# Altium footprint library Capacitor_THT.PcbLib: 378 footprints (part 22 of 24)
Each footprint in its own frame and in the unit in brackets; x right, y up, seen from the top. Pads: shape width x height; smd on the part's side, far side on the other; paste and mask are expansions set on the pad; w line width, h text height; cw(c..) or ccw(c..) is an arc to the next point about the centre after c.
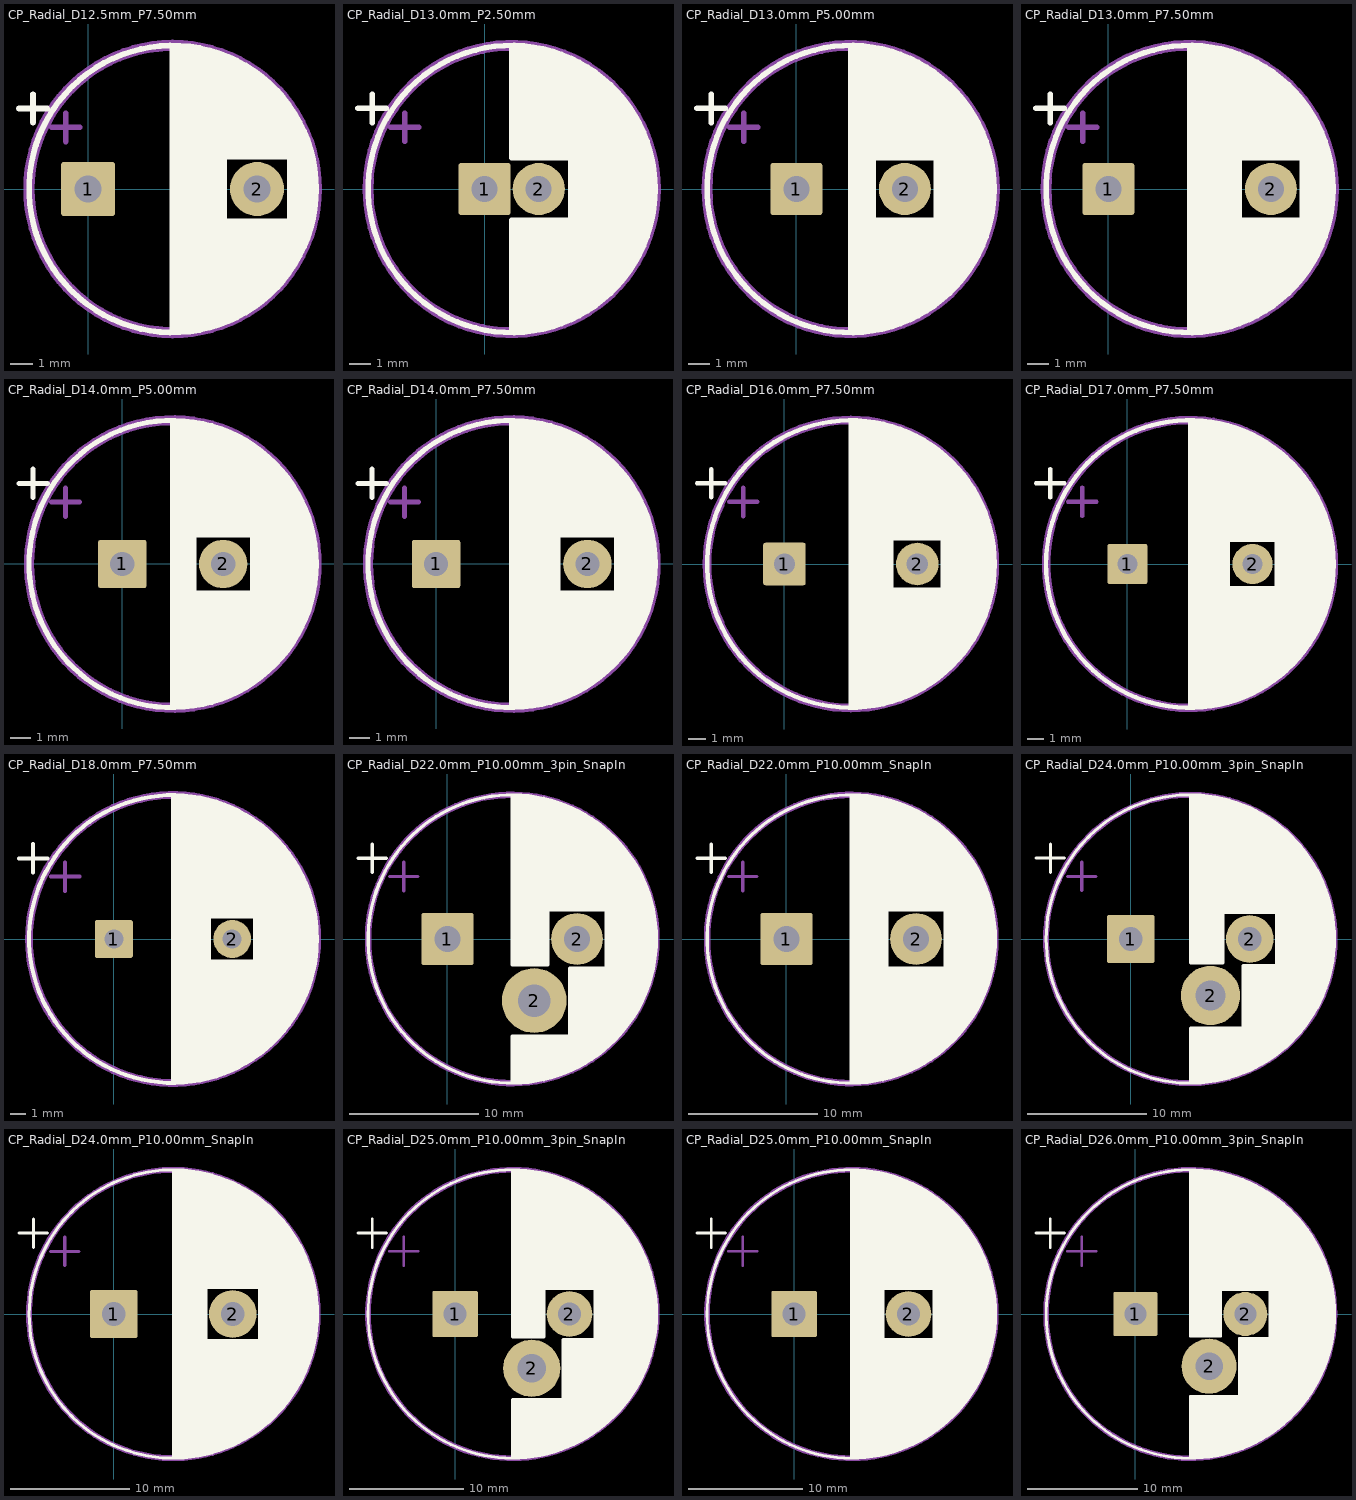
[diagram p21: the footprints below, top view; thin cyan lines are the x and y axes]

## CP_Radial_D12.5mm_P7.50mm [mm] "CP_Radial_D12.5mm_P7.50mm"
pads (2):
  rrect10% 2.4x2.4 hole 1.2: 1(0,0)
  round 2.4 hole 1.2: 2(7.5,0)
F.SilkS:
  drawing of 235 lines, arcs and shapes, not listed
Top Component Center:
  lines w0.127: -0.127,0 0.127,0 ; 0,-0.127 0,0.127
Top Assembly:
  circle w0.254: c3.75,0 r6.25
  lines w0.254: -1.616,2.738 -0.366,2.738 ; -0.991,2.113 -0.991,3.363
Top Courtyard:
  circle w0.254: c3.75,0 r6.5
Top Designator:
  text ".Designator" at 2.314,2.252 h1
3D body "CP_Radial_D12.5mm_P7.50mm.step": height 12.5, standoff -2, extent -2.5,-6.248 10,6.249

## CP_Radial_D13.0mm_P2.50mm [mm] "CP_Radial_D13.0mm_P2.50mm"
pads (2):
  rrect10% 2.4x2.4 hole 1.2: 1(0,0)
  round 2.4 hole 1.2: 2(2.5,0)
F.SilkS:
  drawing of 237 lines, arcs and shapes, not listed
Top Component Center:
  lines w0.127: -0.127,0 0.127,0 ; 0,-0.127 0,0.127
Top Assembly:
  circle w0.254: c1.25,0 r6.5
  lines w0.254: -4.332,2.848 -3.032,2.848 ; -3.682,2.197 -3.682,3.498
Top Courtyard:
  circle w0.254: c1.25,0 r6.75
Top Designator:
  text ".Designator" at -2.885,2.799 h1.52
3D body "CP_Radial_D13.0mm_P2.50mm.step": height 13, standoff -2, extent -5.244,-6.5 7.75,6.498

## CP_Radial_D13.0mm_P5.00mm [mm] "CP_Radial_D13.0mm_P5.00mm"
pads (2):
  rrect10% 2.4x2.4 hole 1.2: 1(0,0)
  round 2.4 hole 1.2: 2(5,0)
F.SilkS:
  drawing of 241 lines, arcs and shapes, not listed
Top Component Center:
  lines w0.127: -0.127,0 0.127,0 ; 0,-0.127 0,0.127
Top Assembly:
  circle w0.254: c2.5,0 r6.5
  lines w0.254: -3.082,2.848 -1.782,2.848 ; -2.432,2.197 -2.432,3.498
Top Courtyard:
  circle w0.254: c2.5,0 r6.75
Top Designator:
  text ".Designator" at 1.433,3.18 h1.52
3D body "CP_Radial_D13.0mm_P5.00mm.step": height 13, standoff -2, extent -3.994,-6.5 9,6.498

## CP_Radial_D13.0mm_P7.50mm [mm] "CP_Radial_D13.0mm_P7.50mm"
pads (2):
  rrect10% 2.4x2.4 hole 1.2: 1(0,0)
  round 2.4 hole 1.2: 2(7.5,0)
F.SilkS:
  drawing of 241 lines, arcs and shapes, not listed
Top Component Center:
  lines w0.127: -0.127,0 0.127,0 ; 0,-0.127 0,0.127
Top Assembly:
  circle w0.254: c3.75,0 r6.5
  lines w0.254: -1.832,2.848 -0.532,2.848 ; -1.182,2.197 -1.182,3.498
Top Courtyard:
  circle w0.254: c3.75,0 r6.75
Top Designator:
  text ".Designator" at 2.246,2.8 h1.3
3D body "CP_Radial_D13.0mm_P7.50mm.step": height 13, standoff -2, extent -2.744,-6.5 10.25,6.498

## CP_Radial_D14.0mm_P5.00mm [mm] "CP_Radial_D14.0mm_P5.00mm"
pads (2):
  rrect10% 2.4x2.4 hole 1.2: 1(0,0)
  round 2.4 hole 1.2: 2(5,0)
F.SilkS:
  drawing of 253 lines, arcs and shapes, not listed
Top Component Center:
  lines w0.127: -0.127,0 0.127,0 ; 0,-0.127 0,0.127
Top Assembly:
  circle w0.254: c2.5,0 r7
  lines w0.254: -3.513,3.067 -2.113,3.067 ; -2.813,2.368 -2.813,3.768
Top Courtyard:
  circle w0.254: c2.5,0 r7.25
Top Designator:
  text ".Designator" at 1.433,3.434 h1.52
3D body "CP_Radial_D14.0mm_P5.00mm.step": height 14, standoff -2, extent -4.5,-6.999 9.5,6.999

## CP_Radial_D14.0mm_P7.50mm [mm] "CP_Radial_D14.0mm_P7.50mm"
pads (2):
  rrect10% 2.4x2.4 hole 1.2: 1(0,0)
  round 2.4 hole 1.2: 2(7.5,0)
F.SilkS:
  drawing of 253 lines, arcs and shapes, not listed
Top Component Center:
  lines w0.127: -0.127,0 0.127,0 ; 0,-0.127 0,0.127
Top Assembly:
  circle w0.254: c3.75,0 r7
  lines w0.254: -2.263,3.067 -0.863,3.067 ; -1.563,2.368 -1.563,3.768
Top Courtyard:
  circle w0.254: c3.75,0 r7.25
Top Designator:
  text ".Designator" at 2.195,3.307 h1.52
3D body "CP_Radial_D14.0mm_P7.50mm.step": height 14, standoff -2, extent -3.25,-6.999 10.75,6.999

## CP_Radial_D16.0mm_P7.50mm [mm] "CP_Radial_D16.0mm_P7.50mm"
pads (2):
  rrect10% 2.4x2.4 hole 1.2: 1(0,0)
  round 2.4 hole 1.2: 2(7.5,0)
F.SilkS:
  drawing of 278 lines, arcs and shapes, not listed
Top Component Center:
  lines w0.127: -0.127,0 0.127,0 ; 0,-0.127 0,0.127
Top Assembly:
  circle w0.254: c3.75,0 r8
  lines w0.254: -3.125,3.508 -1.525,3.508 ; -2.325,2.708 -2.325,4.307
Top Courtyard:
  circle w0.254: c3.75,0 r8.25
Top Designator:
  text ".Designator" at 2.195,3.307 h1.52
3D body "CP_Radial_D16.0mm_P7.50mm.step": height 16, standoff -2, extent -4.25,-7.999 11.75,7.997

## CP_Radial_D17.0mm_P7.50mm [mm] "CP_Radial_D17.0mm_P7.50mm"
pads (2):
  rrect10% 2.4x2.4 hole 1.2: 1(0,0)
  round 2.4 hole 1.2: 2(7.5,0)
F.SilkS:
  drawing of 291 lines, arcs and shapes, not listed
Top Component Center:
  lines w0.127: -0.127,0 0.127,0 ; 0,-0.127 0,0.127
Top Assembly:
  circle w0.254: c3.75,0 r8.5
  lines w0.254: -3.556,3.728 -1.856,3.728 ; -2.706,2.877 -2.706,4.577
Top Courtyard:
  circle w0.254: c3.75,0 r8.75
Top Designator:
  text ".Designator" at 2.195,3.434 h1.52
3D body "CP_Radial_D17.0mm_P7.50mm.step": height 17, standoff -2, extent -4.75,-8.5 12.25,8.5

## CP_Radial_D18.0mm_P7.50mm [mm] "CP_Radial_D18.0mm_P7.50mm"
pads (2):
  rrect10% 2.4x2.4 hole 1.2: 1(0,0)
  round 2.4 hole 1.2: 2(7.5,0)
F.SilkS:
  drawing of 304 lines, arcs and shapes, not listed
Top Component Center:
  lines w0.127: -0.127,0 0.127,0 ; 0,-0.127 0,0.127
Top Assembly:
  circle w0.254: c3.75,0 r9
  lines w0.254: -3.987,3.948 -2.187,3.948 ; -3.087,3.047 -3.087,4.848
Top Courtyard:
  circle w0.254: c3.75,0 r9.25
Top Designator:
  text ".Designator" at 2.195,3.307 h1.52
3D body "CP_Radial_D18.0mm_P7.50mm.step": height 18, standoff -2, extent -5.247,-8.999 12.75,8.997

## CP_Radial_D22.0mm_P10.00mm_3pin_SnapIn [mm] "CP_Radial_D22.0mm_P10.00mm_3pin_SnapIn"
pads (3):
  rrect6% 4x4 hole 2: 1(0,0)
  round 5 hole 2.5: 2(6.7,-4.75)
  round 4 hole 2: 2(10,0)
F.SilkS:
  drawing of 463 lines, arcs and shapes, not listed
Top Component Center:
  lines w0.127: -0.127,0 0.127,0 ; 0,-0.127 0,0.127
Top Assembly:
  circle w0.254: c5,0 r11
  lines w0.254: -4.461,4.828 -2.261,4.828 ; -3.361,3.728 -3.361,5.927
Top Courtyard:
  circle w0.254: c5,0 r11.25
Top Designator:
  text ".Designator" at 2.957,3.307 h1.52
3D body "CP_Radial_D22.0mm_P10.00mm_3pin_SnapIn.step": height 22, standoff -2, extent -11,-10.997 10.999,10.997

## CP_Radial_D22.0mm_P10.00mm_SnapIn [mm] "CP_Radial_D22.0mm_P10.00mm_SnapIn"
pads (2):
  rrect6% 4x4 hole 2: 1(0,0)
  round 4 hole 2: 2(10,0)
F.SilkS:
  drawing of 393 lines, arcs and shapes, not listed
Top Component Center:
  lines w0.127: -0.127,0 0.127,0 ; 0,-0.127 0,0.127
Top Assembly:
  circle w0.254: c5,0 r11
  lines w0.254: -4.461,4.828 -2.261,4.828 ; -3.361,3.728 -3.361,5.927
Top Courtyard:
  circle w0.254: c5,0 r11.25
Top Designator:
  text ".Designator" at 3.338,3.307 h1.52
3D body "CP_Radial_D22.0mm_P10.00mm_SnapIn.step": height 22, standoff -2, extent -5.999,-10.997 16,10.997

## CP_Radial_D24.0mm_P10.00mm_3pin_SnapIn [mm] "CP_Radial_D24.0mm_P10.00mm_3pin_SnapIn"
pads (3):
  rrect6% 4x4 hole 2: 1(0,0)
  round 5 hole 2.5: 2(6.7,-4.75)
  round 4 hole 2: 2(10,0)
F.SilkS:
  drawing of 488 lines, arcs and shapes, not listed
Top Component Center:
  lines w0.127: -0.127,0 0.127,0 ; 0,-0.127 0,0.127
Top Assembly:
  circle w0.254: c5,0 r12
  lines w0.254: -5.324,5.268 -2.924,5.268 ; -4.124,4.068 -4.124,6.468
Top Courtyard:
  circle w0.254: c5,0 r12.25
Top Designator:
  text ".Designator" at 3.084,3.307 h1.52
3D body "CP_Radial_D24.0mm_P10.00mm_3pin_SnapIn.step": height 24, standoff -2, extent -12,-11.997 11.999,11.997

## CP_Radial_D24.0mm_P10.00mm_SnapIn [mm] "CP_Radial_D24.0mm_P10.00mm_SnapIn"
pads (2):
  rrect6% 4x4 hole 2: 1(0,0)
  round 4 hole 2: 2(10,0)
F.SilkS:
  drawing of 418 lines, arcs and shapes, not listed
Top Component Center:
  lines w0.127: -0.127,0 0.127,0 ; 0,-0.127 0,0.127
Top Assembly:
  circle w0.254: c5,0 r12
  lines w0.254: -5.324,5.268 -2.924,5.268 ; -4.124,4.068 -4.124,6.468
Top Courtyard:
  circle w0.254: c5,0 r12.25
Top Designator:
  text ".Designator" at 3.084,3.434 h1.52
3D body "CP_Radial_D24.0mm_P10.00mm_SnapIn.step": height 24, standoff -2, extent -6.999,-11.997 17,11.997

## CP_Radial_D25.0mm_P10.00mm_3pin_SnapIn [mm] "CP_Radial_D25.0mm_P10.00mm_3pin_SnapIn"
pads (3):
  rrect6% 4x4 hole 2: 1(0,0)
  round 5 hole 2.5: 2(6.7,-4.75)
  round 4 hole 2: 2(10,0)
F.SilkS:
  drawing of 500 lines, arcs and shapes, not listed
Top Component Center:
  lines w0.127: -0.127,0 0.127,0 ; 0,-0.127 0,0.127
Top Assembly:
  circle w0.254: c5,0 r12.5
  lines w0.254: -5.755,5.487 -3.255,5.487 ; -4.505,4.237 -4.505,6.737
Top Courtyard:
  circle w0.254: c5,0 r12.75
Top Designator:
  text ".Designator" at 3.084,3.18 h1.52
3D body "CP_Radial_D25.0mm_P10.00mm_3pin_SnapIn.step": height 25, standoff -2, extent -12.5,-12.497 12.499,12.497

## CP_Radial_D25.0mm_P10.00mm_SnapIn [mm] "CP_Radial_D25.0mm_P10.00mm_SnapIn"
pads (2):
  rrect6% 4x4 hole 2: 1(0,0)
  round 4 hole 2: 2(10,0)
F.SilkS:
  drawing of 430 lines, arcs and shapes, not listed
Top Component Center:
  lines w0.127: -0.127,0 0.127,0 ; 0,-0.127 0,0.127
Top Assembly:
  circle w0.254: c5,0 r12.5
  lines w0.254: -5.755,5.487 -3.255,5.487 ; -4.505,4.237 -4.505,6.737
Top Courtyard:
  circle w0.254: c5,0 r12.75
Top Designator:
  text ".Designator" at 3.211,3.18 h1.52
3D body "CP_Radial_D25.0mm_P10.00mm_SnapIn.step": height 25, standoff -2, extent -7.499,-12.497 17.5,12.497

## CP_Radial_D26.0mm_P10.00mm_3pin_SnapIn [mm] "CP_Radial_D26.0mm_P10.00mm_3pin_SnapIn"
pads (3):
  rrect6% 4x4 hole 2: 1(0,0)
  round 5 hole 2.5: 2(6.7,-4.75)
  round 4 hole 2: 2(10,0)
F.SilkS:
  drawing of 513 lines, arcs and shapes, not listed
Top Component Center:
  lines w0.127: -0.127,0 0.127,0 ; 0,-0.127 0,0.127
Top Assembly:
  circle w0.254: c5,0 r13
  lines w0.254: -6.186,5.707 -3.586,5.707 ; -4.886,4.407 -4.886,7.007
Top Courtyard:
  circle w0.254: c5,0 r13.25
Top Designator:
  text ".Designator" at 3.338,3.18 h1.52
3D body "CP_Radial_D26.0mm_P10.00mm_3pin_SnapIn.step": height 26, standoff -2, extent -13,-12.997 12.999,12.997